# Altium schematic symbol library tps54332_12v_to_7v.SchLib: 15 symbols
Pins are listed as number, name and electrical type; pins without a type are passive.

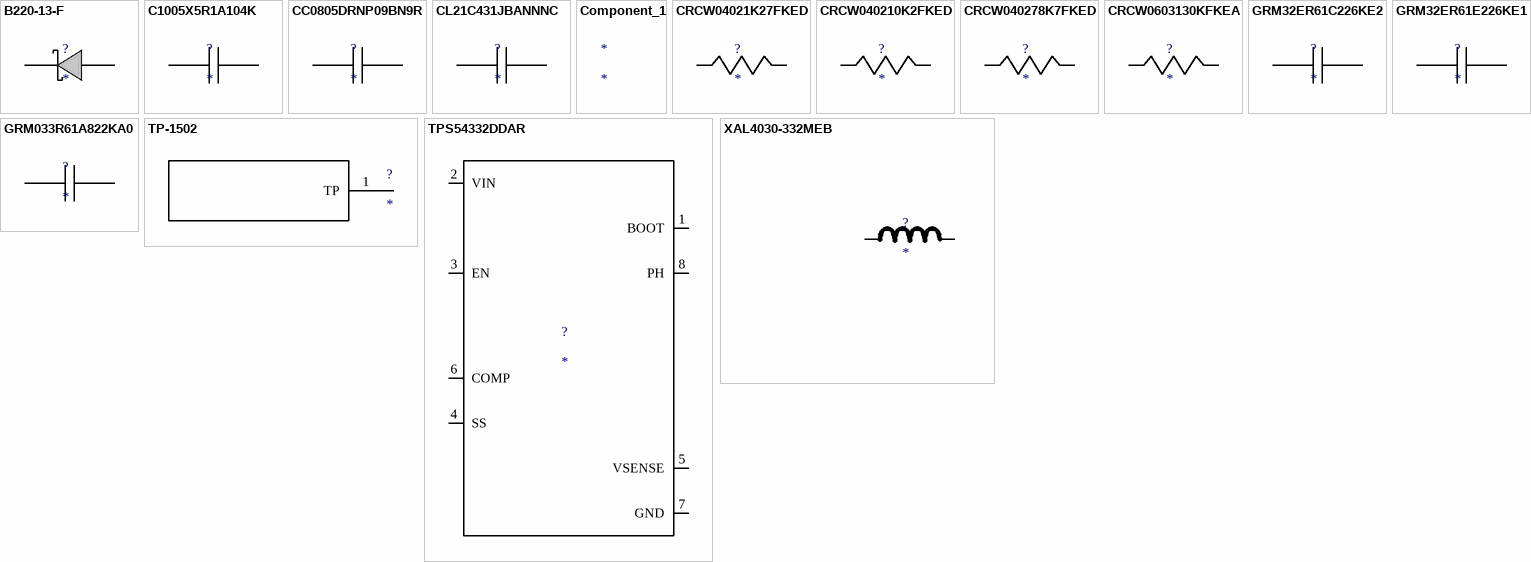
[diagram p0: symbols B220-13-F to XAL4030-332MEB]

## B220-13-F
designator ?
Imported; Manufacturer_Part_Number: B220-13-F; Vendor: Diodes Inc.; RefDes: RefDes; Type: Type; Value: Value
footprint SMB
pins: 1 K, 2 A

## C1005X5R1A104K
designator ?
Imported; Manufacturer_Part_Number: C1005X5R1A104K; Vendor: TDK; RefDes: RefDes; TYPE: TYPE; Value: Value
footprint 1005
pins: 1, 2

## CC0805DRNP09BN9R
designator ?
Imported; Manufacturer_Part_Number: CC0805DRNP09BN9R0; Vendor: Yageo America; RefDes: RefDes; TYPE: TYPE; Value: Value
footprint 0805
pins: 1, 2

## CL21C431JBANNNC
designator ?
Imported; Manufacturer_Part_Number: CL21C431JBANNNC; Vendor: Samsung Electro-Mechanics; RefDes: RefDes; TYPE: TYPE; Value: Value
footprint 0805
pins: 1, 2

## Component_1
designator *

## CRCW04021K27FKED
designator ?
Imported; Manufacturer_Part_Number: CRCW04021K27FKED; Vendor: Vishay-Dale; RefDes: RefDes; TYPE: TYPE; Value: Value
footprint 0402
pins: 1, 2

## CRCW040210K2FKED
designator ?
Imported; Manufacturer_Part_Number: CRCW040210K2FKED; Vendor: Vishay-Dale; RefDes: RefDes; TYPE: TYPE; Value: Value
footprint 0402
pins: 1, 2

## CRCW040278K7FKED
designator ?
Imported; Manufacturer_Part_Number: CRCW040278K7FKED; Vendor: Vishay-Dale; RefDes: RefDes; TYPE: TYPE; Value: Value
footprint 0402
pins: 1, 2

## CRCW0603130KFKEA
designator ?
Imported; Manufacturer_Part_Number: CRCW0603130KFKEA; Vendor: Vishay-Dale; RefDes: RefDes; TYPE: TYPE; Value: Value
footprint 0603
pins: 1, 2

## GRM32ER61C226KE2
designator ?
Imported; Manufacturer_Part_Number: GRM32ER61C226KE20L; Vendor: MuRata; RefDes: RefDes; TYPE: TYPE; Value: Value
footprint 1210
pins: 1, 2

## GRM32ER61E226KE1
designator ?
Imported; Manufacturer_Part_Number: GRM32ER61E226KE15L; Vendor: MuRata; RefDes: RefDes; TYPE: TYPE; Value: Value
footprint 1210
pins: 1, 2

## GRM033R61A822KA0
designator ?
Imported; Manufacturer_Part_Number: GRM033R61A822KA01D; Vendor: MuRata; RefDes: RefDes; TYPE: TYPE; Value: Value
footprint 0201
pins: 1, 2

## TP-1502
designator ?
Imported; RefDes: RefDes; Type: Type; Value: Value
footprint TP-1502
pins: 1 TP

## TPS54332DDAR
designator ?
Imported; Frequency: 1000000.0; Imax: 3.5; Mktg_Package: DDA0008H; NSID: TPS54332DDAR; Vendor: Texas Instruments; Datasheet URL: http://www.ti.com/product/tps54332; Package: DDA0008H; Manufacturer_Part_Number: TPS54332DDAR; RefDes: RefDes; TYPE: TYPE; Value: Value
footprint DDA0008H
pins: 1 BOOT, 2 VIN, 3 EN, 4 SS, 5 VSENSE, 6 COMP, 7 GND, 8 PH, 9 GND

## XAL4030-332MEB
designator ?
Imported; Manufacturer_Part_Number: XAL4030-332MEB; Vendor: Coilcraft; RefDes: RefDes; TYPE: TYPE; Value: Value
footprint XAL4030
pins: 1, 2